# EAGLE library part KMMX-BSMT5SB-30TR (library KMMX-BSMT5SB-30TR)
USB Connectors MICRO USB TYPE B SMT BLACK 30"GOLD Source: Datasheet <http://www.kycon.com/Pub_Eng_Draw/KMMX-BSMT5SB-30TR.pdf>
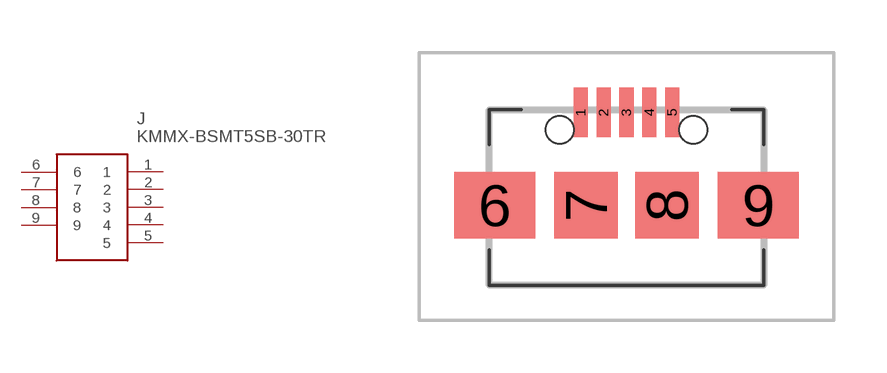
[diagram p0: symbol with the pads of KMMXBSMT5SB30TR; footprint KMMXBSMT5SB30TR]

Designator prefix J

## KMMX-BSMT5SB-30TR (Description: USB Connectors MICRO USB TYPE B SMT BLACK 30"GOLD; Height: 3mm; Manufacturer_Name: Kycon; Manufacturer_Part_Number: KMMX-BSMT5SB-30TR; Mouser_Part_Number: 806-KMMX-BSMT5SB-30; Mouser_Price-Stock: https://www.mouser.co.uk/ProductDetail/Kycon/KMMX-BSMT5SB-30TR?qs=PZ1ub9NEDaWcdVwXxQY48w%3D%3D)  [KMMXBSMT5SB30TR]
1  1
2  2
3  3
4  4
5  5
6  6
7  7
8  8
9  9

## Footprint KMMXBSMT5SB30TR (pad centres in mm)
KMMX-BSMT5SB-30TR-1
smd 0.4 x 1.4: 1 -1.3,2.113; 2 -0.65,2.113; 3 0,2.113; 4 0.65,2.113; 5 1.3,2.113
smd 2.3 x 1.9: 6 -3.75,-0.538; 9 3.75,-0.538
smd 1.8 x 1.9: 7 -1.15,-0.538; 8 1.15,-0.538
hole 0.8 at -1.9,1.612
hole 0.8 at 1.9,1.612